# Altium schematic symbol library MCP2561_2562.SchLib: 3 symbols
Pins are listed as number, name and electrical type; pins without a type are passive.

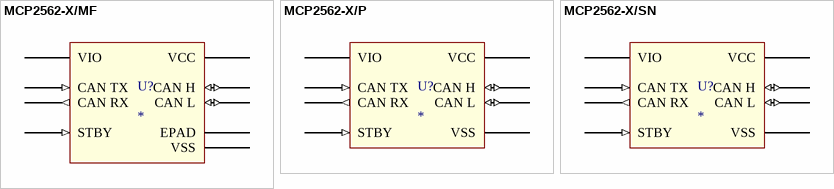
[diagram p0: symbols MCP2562-X/MF to MCP2562-X/SN]

## MCP2562-X/MF
designator U?
Microchip CAN Transceiver MCP2562Plastic Dual Flat, No Lead Package - 3x3x0.9 mm Body, 8-lead
footprint DFN(3x3) (MCP2561/2562 DFN(3x3) Package)
pins: 1 CAN TX (in), 2 VSS (power), 3 VCC (power), 4 CAN RX (out), 5 VIO (power), 6 CAN L (io), 7 CAN H (io), 8 STBY (in), 9 EPAD (power)

## MCP2562-X/P
designator U?
Microchip CAN Transceiver MCP2562 Plastic Dual In-Line - 300 mil Body, 8-lead
pins: 1 CAN TX (in), 2 VSS (power), 3 VCC (power), 4 CAN RX (out), 5 VIO (power), 6 CAN L (io), 7 CAN H (io), 8 STBY (in)

## MCP2562-X/SN
designator U?
Microchip CAN Transceiver MCP2562 Plastic Dual In-Line - 300 mil Body, 8-lead
footprint SOIC (8-Lead) (MCP2561/2562 SOIC 8pin Package)
pins: 1 CAN TX (in), 2 VSS (power), 3 VCC (power), 4 CAN RX (out), 5 VIO (power), 6 CAN L (io), 7 CAN H (io), 8 STBY (in)